# Altium schematic symbol library FC68148S.SchLib: 1 symbol
Pins are listed as number, name and electrical type; pins without a type are passive.

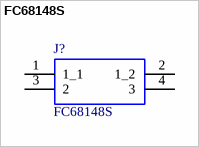
[diagram p0: symbol FC68148S]

## FC68148S
designator J?
CLIFF ELECTRONIC COMPONENTS - FC68148S - DC  SOCKET, SMD, DC-10AS, 2.1MM PIN; Manufacturer_Name: CLIFF ELECTRONIC COMPONENTS; Manufacturer_Part_Number: FC68148S; RS Part Number: *; RS Price/Stock: *; Arrow Part Number: FC68148S; Arrow Price/Stock: *; Datasheet Link: http://www.cliffuk.co.uk/products/dcconnectors/FC68148S.pdf
footprint FC68148S_2
pins: 1 1_1, 2 1_2, 3 2, 4 3